# Altium footprint library LED_1206.PcbLib: 1 footprints
Each footprint in its own frame and in the unit in brackets; x right, y up, seen from the top. Pads: shape width x height; smd on the part's side, far side on the other; paste and mask are expansions set on the pad; w line width, h text height; cw(c..) or ccw(c..) is an arc to the next point about the centre after c.
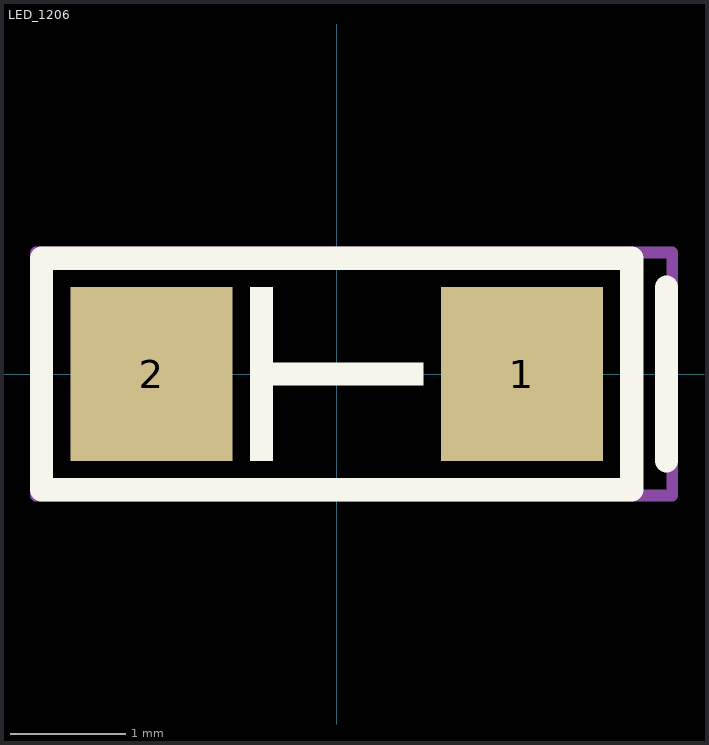
[diagram p0: the footprint, top view; thin cyan lines are the x and y axes]

## LED_1206 [mm]
pads (2):
  rect 1.4x1.5 smd: 1(1.6,0) 2(-1.6,0)
Top Overlay:
  rectangle: -0.75,-0.75 -0.55,0.75
  rectangle: -0.75,-0.1 0.75,0.1
  lines w0.2: 2.85,-0.75 2.85,0.75 ; -2.55,-1 -2.55,1 2.55,1 2.55,-1 -2.55,-1
Top Courtyard:
  lines w0.1: -2.6,-1.05 -2.6,1.05 2.9,1.05 2.9,-1.05 -2.6,-1.05
3D body "LED 1206 Base RED.STEP": height 0.4, standoff 0, extent -1.6,-0.8 1.6,0.8
3D body "LED 1206 Lens RED.STEP": height 0.9, standoff 0.3, extent -0.75,-0.8 0.75,0.8